# Altium schematic symbol library LTC4151IMS#PBF.SchLib: 1 symbol
Pins are listed as number, name and electrical type; pins without a type are passive.

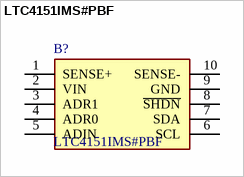
[diagram p0: symbol LTC4151IMS#PBF]

## LTC4151IMS#PBF
designator B?
Linear Technology LTC4151IMS#PBF, Dual Voltage Detector, 7  80 V, 10-Pin MSOP; Manufacturer_Name: Analog Devices; Geometry.Height: 1.1mm; Mouser Part Number: 584-LTC4151IMS#PBF; Mouser Price/Stock: https://www.mouser.co.uk/ProductDetail/Analog-Devices/LTC4151IMSPBF?qs=hVkxg5c3xu%2F2n6Fpk%2FlWrA%3D%3D; Manufacturer_Part_Number: LTC4151IMS#PBF; Datasheet Link: http://www.linear.com/docs/26089
footprint SOP50P490X110-10N
pins: 1 SENSE+, 2 VIN, 3 ADR1, 4 ADR0, 5 ADIN, 6 SCL, 7 SDA, 8 ~{SHDN}, 9 GND, 10 SENSE-